# Altium schematic symbol library Inductors.SchLib: 4 symbols
Pins are listed as number, name and electrical type; pins without a type are passive.

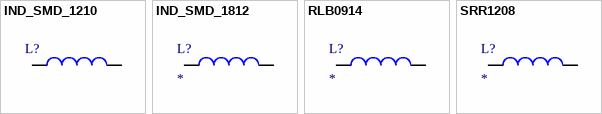
[diagram p0: symbols IND_SMD_1210 to SRR1208]

## IND_SMD_1210
designator L?
ComponentLink1Description: Datasheet; ComponentLink1URL: https://lib.chipdip.ru/229/DOC000229038.pdf
footprint IND_SMD_1210_V (SMT Inductor, 2 Leads, Body 3.2x2.5mm)
pins: 1, 2

## IND_SMD_1812
designator L?
ComponentLink1Description: Datasheet; ComponentLink1URL: https://lib.chipdip.ru/229/DOC000229038.pdf; Value: *
footprint IND_SMD_1812_V
pins: 1, 2

## RLB0914
designator L?
ComponentLink1Description: Datasheet; ComponentLink1URL: https://lib.chipdip.ru/229/DOC000229038.pdf; Current: *; Value: *
footprint RLB0914
pins: 1, 2

## SRR1208
designator L?
ComponentLink1Description: Datasheet; ComponentLink1URL: https://lib.chipdip.ru/229/DOC000229038.pdf; Value: *
footprint SRR1208
pins: 1, 2